# Altium footprint library 61300311121.PCBLIB: 1 footprints
Each footprint in its own frame and in the unit in brackets; x right, y up, seen from the top. Pads: shape width x height; smd on the part's side, far side on the other; paste and mask are expansions set on the pad; w line width, h text height; cw(c..) or ccw(c..) is an arc to the next point about the centre after c.
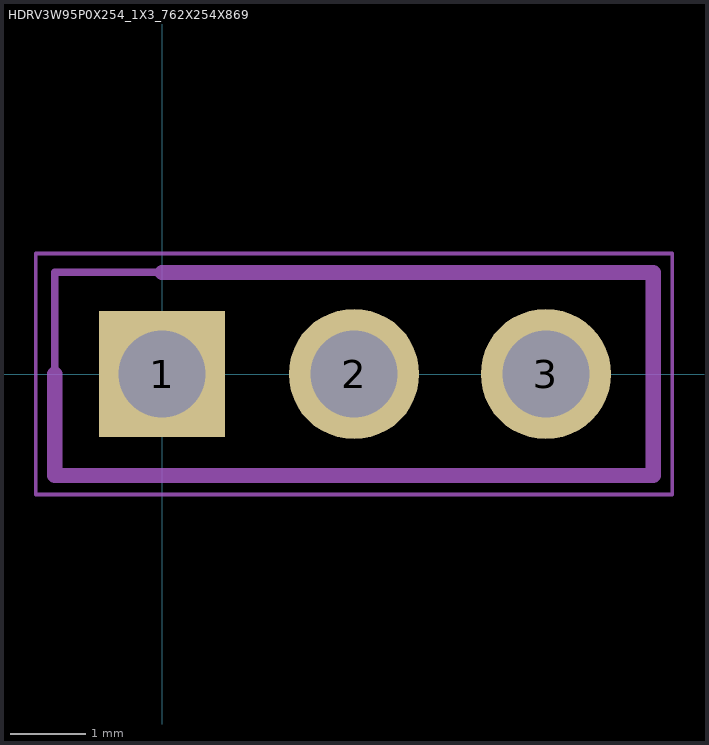
[diagram p0: the footprint, top view; thin cyan lines are the x and y axes]

## HDRV3W95P0X254_1X3_762X254X869 [mil]
pads (3):
  rect 65.75x65.75 / inner rect 60x60 / far side rect 65.75x65.75 hole 45.28: 1(0,0)
  round 67.91 / inner round 60 / far side round 67.91 hole 45.28: 2(100,0) 3(200,0)
Mechanical 8:
  lines w1.97: -65.75,-62.8 265.75,-62.8 265.75,62.8 -65.75,62.8 -65.75,-62.8
  lines w3.94: -55.91,-52.95 255.91,-52.95 255.91,52.95 -55.91,52.95 -55.91,-52.95
Mechanical 22:
  lines w7.87: -55.91,0 -55.91,-52.95 255.91,-52.95 255.91,52.95 0,52.95